# Altium schematic symbol library USB-A1VSB6.SchLib: 1 symbol
Pins are listed as number, name and electrical type; pins without a type are passive.

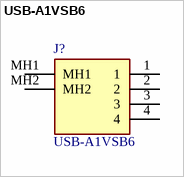
[diagram p0: symbol USB-A1VSB6]

## USB-A1VSB6
designator J?
USB - A Receptacle Connector 4 Position Through Hole; Manufacturer_Name: On Shore Technology Inc.; Geometry.Height: 13.7mm; Manufacturer_Part_Number: USB-A1VSB6; Mouser Part Number: *; Mouser Price/Stock: *; Arrow Part Number: USB-A1VSB6; Arrow Price/Stock: https://www.arrow.com/en/products/usb-a1vsb6/on-shore-technology?utm_currency=USD&region=nac; Datasheet Link: http://www.on-shore.com/wp-content/uploads/USB-A1VSXX.pdf
footprint USBA1VSB6
pins: 1, 2, 3, 4, MH1, MH2